# Altium footprint library rectifier.PCBLIB: 38 footprints (part 3 of 3)
Each footprint in its own frame and in the unit in brackets; x right, y up, seen from the top. Pads: shape width x height; smd on the part's side, far side on the other; paste and mask are expansions set on the pad; w line width, h text height; cw(c..) or ccw(c..) is an arc to the next point about the centre after c.
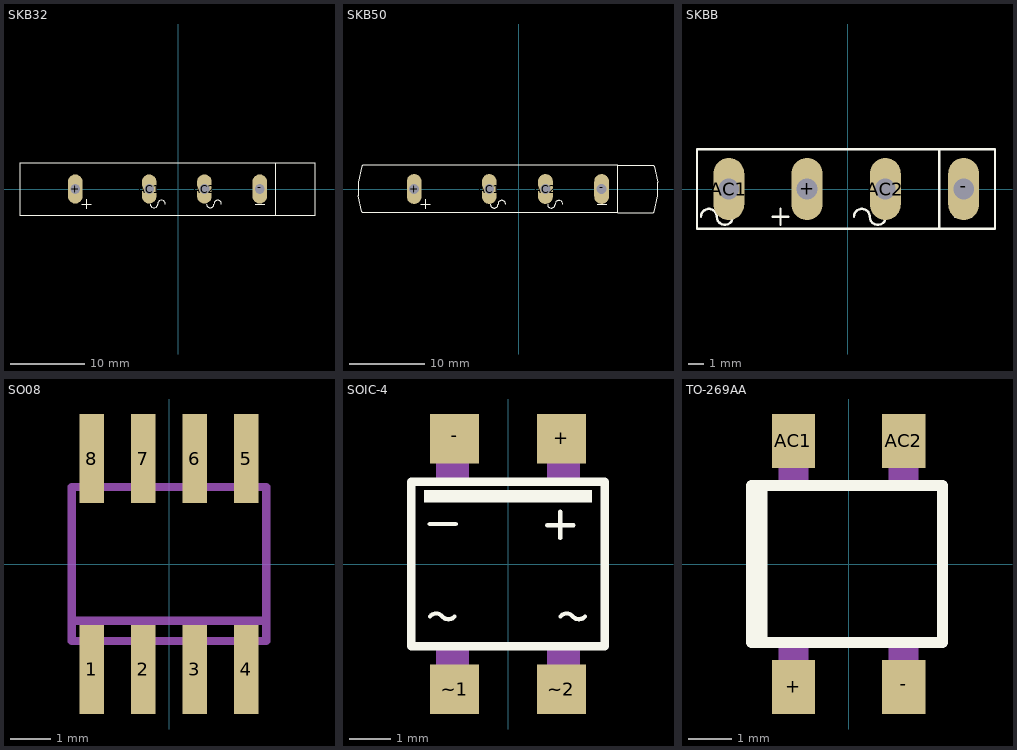
[diagram p2: the footprints below, top view; thin cyan lines are the x and y axes]

## SKB32 [mil]
pads (4):
  oval 78x156 hole 52: +(-550,0) -(434,0) AC1(-156,0) AC2(139,0)
Top Overlay:
  lines w6: -515,-80 -465,-80 ; -490,-105 -490,-55 ; -150,-80 ccw(c-130,-80) -110,-80 cw(c-90,-80) -70,-80 ; 150,-80 ccw(c170,-80) 190,-80 cw(c210,-80) 230,-80 ; 410,-80 460,-80 ; 520,-140 -845,-140 -845,140 520,140 ; 520,-140 520,140 ; 520,-140 730,-140 730,140 520,140
Via Holes:
  rectangle: -850,-150 750,150

## SKB50 [mil]
pads (4):
  oval 78x156 hole 52: +(-550,0) -(434,0) AC1(-156,0) AC2(139,0)
Top Overlay:
  lines w6: -515,-80 -465,-80 ; -490,-105 -490,-55 ; -150,-80 ccw(c-130,-80) -110,-80 cw(c-90,-80) -70,-80 ; 150,-80 ccw(c170,-80) 190,-80 cw(c210,-80) 230,-80 ; 410,-80 460,-80 ; 520,-125 520,125 ; 520,-125 705,-125 710,-120 730,-35 730,35 710,120 705,125 520,125 ; 520,-125 -820,-125 -825,-120 -845,-35 -845,35 -825,120 -820,125 520,125
Via Holes:
  rectangle: -725,-125 625,125

## SKBB [mil]
pads (4):
  oval 78x156 hole 52: +(-103,0) -(291,0) AC1(-300,0) AC2(94,0)
Top Overlay:
  lines w6: -370,-70 cw(c-350,-70) -330,-70 ccw(c-310,-70) -290,-70 ; -190,-70 -150,-70 ; -170,-90 -170,-50 ; 15,-70 cw(c35,-70) 55,-70 ccw(c75,-70) 95,-70 ; 270,-70 310,-70 ; 230,-100 -380,-100 -380,100 230,100 ; 230,-100 230,100 ; 230,-100 370,-100 370,100 230,100
Via Holes:
  rectangle: -375,-100 375,100

## SO08 [mil]
pads (8):
  rect 23.62x86.61 smd: 1(-75,-102.36) 2(-25,-102.36) 3(25,-102.36) 4(75,-102.36) 5(75,102.36) 6(25,102.36) 7(-25,102.36) 8(-75,102.36)
Mechanical 16:
  rectangle: -84.65,-122.05 -65.35,-78.74
  rectangle: -34.65,-122.05 -15.35,-78.74
  rectangle: 15.35,-122.05 34.65,-78.74
  rectangle: 65.35,-122.05 84.65,-78.74
  rectangle: 65.35,78.74 84.65,122.05
  rectangle: 15.35,78.74 34.65,122.05
  rectangle: -34.65,78.74 -15.35,122.05
  rectangle: -84.65,78.74 -65.35,122.05
  lines w8: -94.49,-55.12 -94.49,-74.8 94.49,-74.8 94.49,-55.12 ; -94.49,-55.12 -94.49,74.8 94.49,74.8 94.49,-55.12 ; -94.49,-55.12 94.49,-55.12

## SOIC-4 [mil]
pads (4):
  rect 47.24x47.24 smd: +(51.18,120.08) -(-51.18,120.08) ~1(-51.18,-120.08) ~2(51.18,-120.08)
Top Overlay:
  rectangle: -80.71,59.06 80.71,70.87
  lines w4: -75,38.19 -50,38.19 ; -74.8,-50.2 cw(c-68.89,-55.16) -62.99,-50.2 ccw(c-57.09,-45.24) -51.18,-50.2 ; 37.6,37.2 62.6,37.2 ; 50,25 50,50 ; 50.2,-50.2 cw(c56.1,-55.16) 62.01,-50.2 ccw(c67.92,-45.24) 73.82,-50.2
  lines w8: -92.52,-78.74 92.52,-78.74 92.52,78.74 -92.52,78.74 -92.52,-78.74
Mechanical 16:
  rectangle: -68.9,80.71 -37.4,135.83
  rectangle: 37.4,80.71 68.9,135.83
  region: 68.9,-80.71 37.4,-80.71 37.4,-135.83 68.9,-135.83
  region: -37.4,-80.71 -68.9,-80.71 -68.9,-135.83 -37.4,-135.83

## TO-269AA [mm]
pads (4):
  rect 1x1.25 smd: +(-1.28,-2.855) -(1.28,-2.855) AC1(-1.28,2.855) AC2(1.28,2.855)
Top Overlay:
  lines w0.254: -2.01,1.825 -2.01,-1.825 ; -2.01,-1.825 2.175,-1.825 2.175,1.825 -2.25,1.825 -2.25,-1.825 -2.01,-1.825
Mechanical 16:
  rectangle: -1.625,-3.25 -0.925,-1.93
  rectangle: 0.925,-3.25 1.625,-1.93
  region: 1.625,3.25 0.925,3.25 0.925,1.93 1.625,1.93
  region: -0.925,3.25 -1.625,3.25 -1.625,1.93 -0.925,1.93